# EAGLE library part BEMICROCV_SHIELD (library kmod-testing)
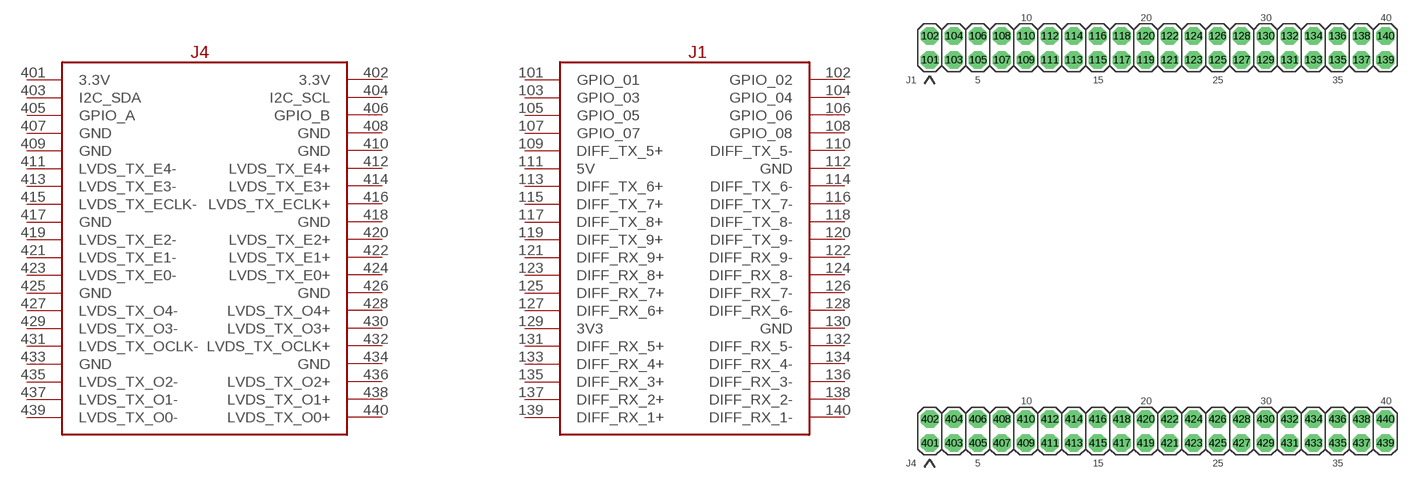
[diagram p19: symbol with the pads of BEMICROCV_SHIELD; footprint BEMICROCV_SHIELD]

Designator prefix -

## BEMICROCV_SHIELD  [BEMICROCV_SHIELD]
101  GPIO_01
102  GPIO_02
103  GPIO_03
104  GPIO_04
105  GPIO_05
106  GPIO_06
107  GPIO_07
108  GPIO_08
109  DIFF_TX_5+
110  DIFF_TX_5-
111  5V
112  GND
113  DIFF_TX_6+
114  DIFF_TX_6-
115  DIFF_TX_7+
116  DIFF_TX_7-
117  DIFF_TX_8+
118  DIFF_TX_8-
119  DIFF_TX_9+
120  DIFF_TX_9-
121  DIFF_RX_9+
122  DIFF_RX_9-
123  DIFF_RX_8+
124  DIFF_RX_8-
125  DIFF_RX_7+
126  DIFF_RX_7-
127  DIFF_RX_6+
128  DIFF_RX_6-
129  3V3
130  GND
131  DIFF_RX_5+
132  DIFF_RX_5-
133  DIFF_RX_4+
134  DIFF_RX_4-
135  DIFF_RX_3+
136  DIFF_RX_3-
137  DIFF_RX_2+
138  DIFF_RX_2-
139  DIFF_RX_1+
140  DIFF_RX_1-
401  3.3V
402  3.3V
403  I2C_SDA
404  I2C_SCL
405  GPIO_A
406  GPIO_B
407  GND
408  GND
409  GND
410  GND
411  LVDS_TX_E4-
412  LVDS_TX_E4+
413  LVDS_TX_E3-
414  LVDS_TX_E3+
415  LVDS_TX_ECLK-
416  LVDS_TX_ECLK+
417  GND
418  GND
419  LVDS_TX_E2-
420  LVDS_TX_E2+
421  LVDS_TX_E1-
422  LVDS_TX_E1+
423  LVDS_TX_E0-
424  LVDS_TX_E0+
425  GND
426  GND
427  LVDS_TX_O4-
428  LVDS_TX_O4+
429  LVDS_TX_O3-
430  LVDS_TX_O3+
431  LVDS_TX_OCLK-
432  LVDS_TX_OCLK+
433  GND
434  GND
435  LVDS_TX_O2-
436  LVDS_TX_O2+
437  LVDS_TX_O1-
438  LVDS_TX_O1+
439  LVDS_TX_O0-
440  LVDS_TX_O0+

## Footprint BEMICROCV_SHIELD (pad centres in mm)
drill 1.016 pad 1.88 octagon: 101 -23.09,20.55; 102 -23.09,23.09; 103 -20.55,20.55; 104 -20.55,23.09; 105 -18.01,20.55; 106 -18.01,23.09; 107 -15.47,20.55; 108 -15.47,23.09; 109 -12.93,20.55; 110 -12.93,23.09; 111 -10.39,20.55; 112 -10.39,23.09; 113 -7.85,20.55; 114 -7.85,23.09; 115 -5.31,20.55; 116 -5.31,23.09; 117 -2.77,20.55; 118 -2.77,23.09; 119 -0.23,20.55; 120 -0.23,23.09; 121 2.31,20.55; 122 2.31,23.09; 123 4.85,20.55; 124 4.85,23.09; 125 7.39,20.55; 126 7.39,23.09; 127 9.93,20.55; 128 9.93,23.09; 129 12.47,20.55; 130 12.47,23.09; 131 15.01,20.55; 132 15.01,23.09; 133 17.55,20.55; 134 17.55,23.09; 135 20.09,20.55; 136 20.09,23.09; 137 22.63,20.55; 138 22.63,23.09; 139 25.17,20.55; 140 25.17,23.09; 401 -23.09,-20.09; 402 -23.09,-17.55; 403 -20.55,-20.09; 404 -20.55,-17.55; 405 -18.01,-20.09; 406 -18.01,-17.55; 407 -15.47,-20.09; 408 -15.47,-17.55; 409 -12.93,-20.09; 410 -12.93,-17.55; 411 -10.39,-20.09; 412 -10.39,-17.55; 413 -7.85,-20.09; 414 -7.85,-17.55; 415 -5.31,-20.09; 416 -5.31,-17.55; 417 -2.77,-20.09; 418 -2.77,-17.55; 419 -0.23,-20.09; 420 -0.23,-17.55; 421 2.31,-20.09; 422 2.31,-17.55; 423 4.85,-20.09; 424 4.85,-17.55; 425 7.39,-20.09; 426 7.39,-17.55; 427 9.93,-20.09; 428 9.93,-17.55; 429 12.47,-20.09; 430 12.47,-17.55; 431 15.01,-20.09; 432 15.01,-17.55; 433 17.55,-20.09; 434 17.55,-17.55; 435 20.09,-20.09; 436 20.09,-17.55; 437 22.63,-20.09; 438 22.63,-17.55; 439 25.17,-20.09; 440 25.17,-17.55